# Altium schematic symbol library CAP,Cer,4.7nF,50VDC,X7R,0603.Schlib: 1 symbol
Pins are listed as number, name and electrical type; pins without a type are passive.

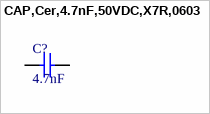
[diagram p0: symbol CAP,Cer,4.7nF,50VDC,X7R,0603]

## CAP,Cer,4.7nF,50VDC,X7R,0603
designator C?, comment 4.7nF
CAP CER 4700PF 50V X7R 0603
pins: 1, 2